# EAGLE library part GEC04DABN-M30 (library con-sullins)
HEADER - Vertical
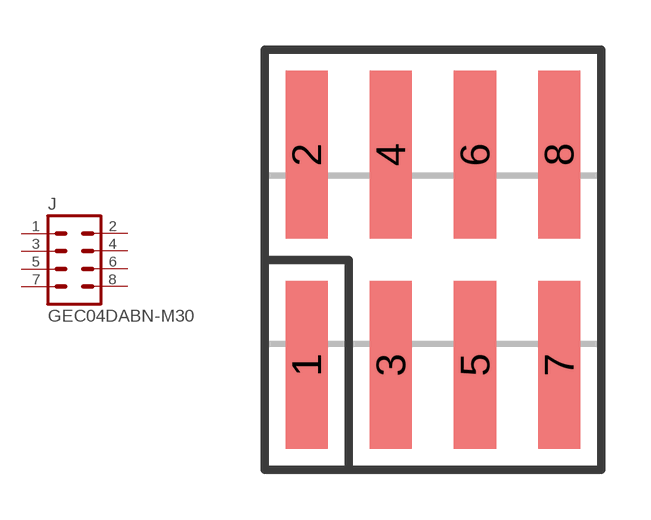
[diagram p1: symbol with the pads of GXC04; footprint GXC04]

Designator prefix J

## GEC04DABN-M30  [GXC04]
1  1  pas
2  2  pas
3  3  pas
4  4  pas
5  5  pas
6  6  pas
7  7  pas
8  8  pas

## Footprint GXC04 (pad centres in mm)
SMD HEADER - 0.1", Vertical
smd 1.27 x 5.08: 1 -3.81,-3.175; 2 -3.81,3.175; 3 -1.27,-3.175; 4 -1.27,3.175; 5 1.27,-3.175; 6 1.27,3.175; 7 3.81,-3.175; 8 3.81,3.175